# Altium footprint library LARS_409_CONNECTORS.PCBLIB: 109 footprints (part 7 of 7)
Each footprint in its own frame and in the unit in brackets; x right, y up, seen from the top. Pads: shape width x height; smd on the part's side, far side on the other; paste and mask are expansions set on the pad; w line width, h text height; cw(c..) or ccw(c..) is an arc to the next point about the centre after c.
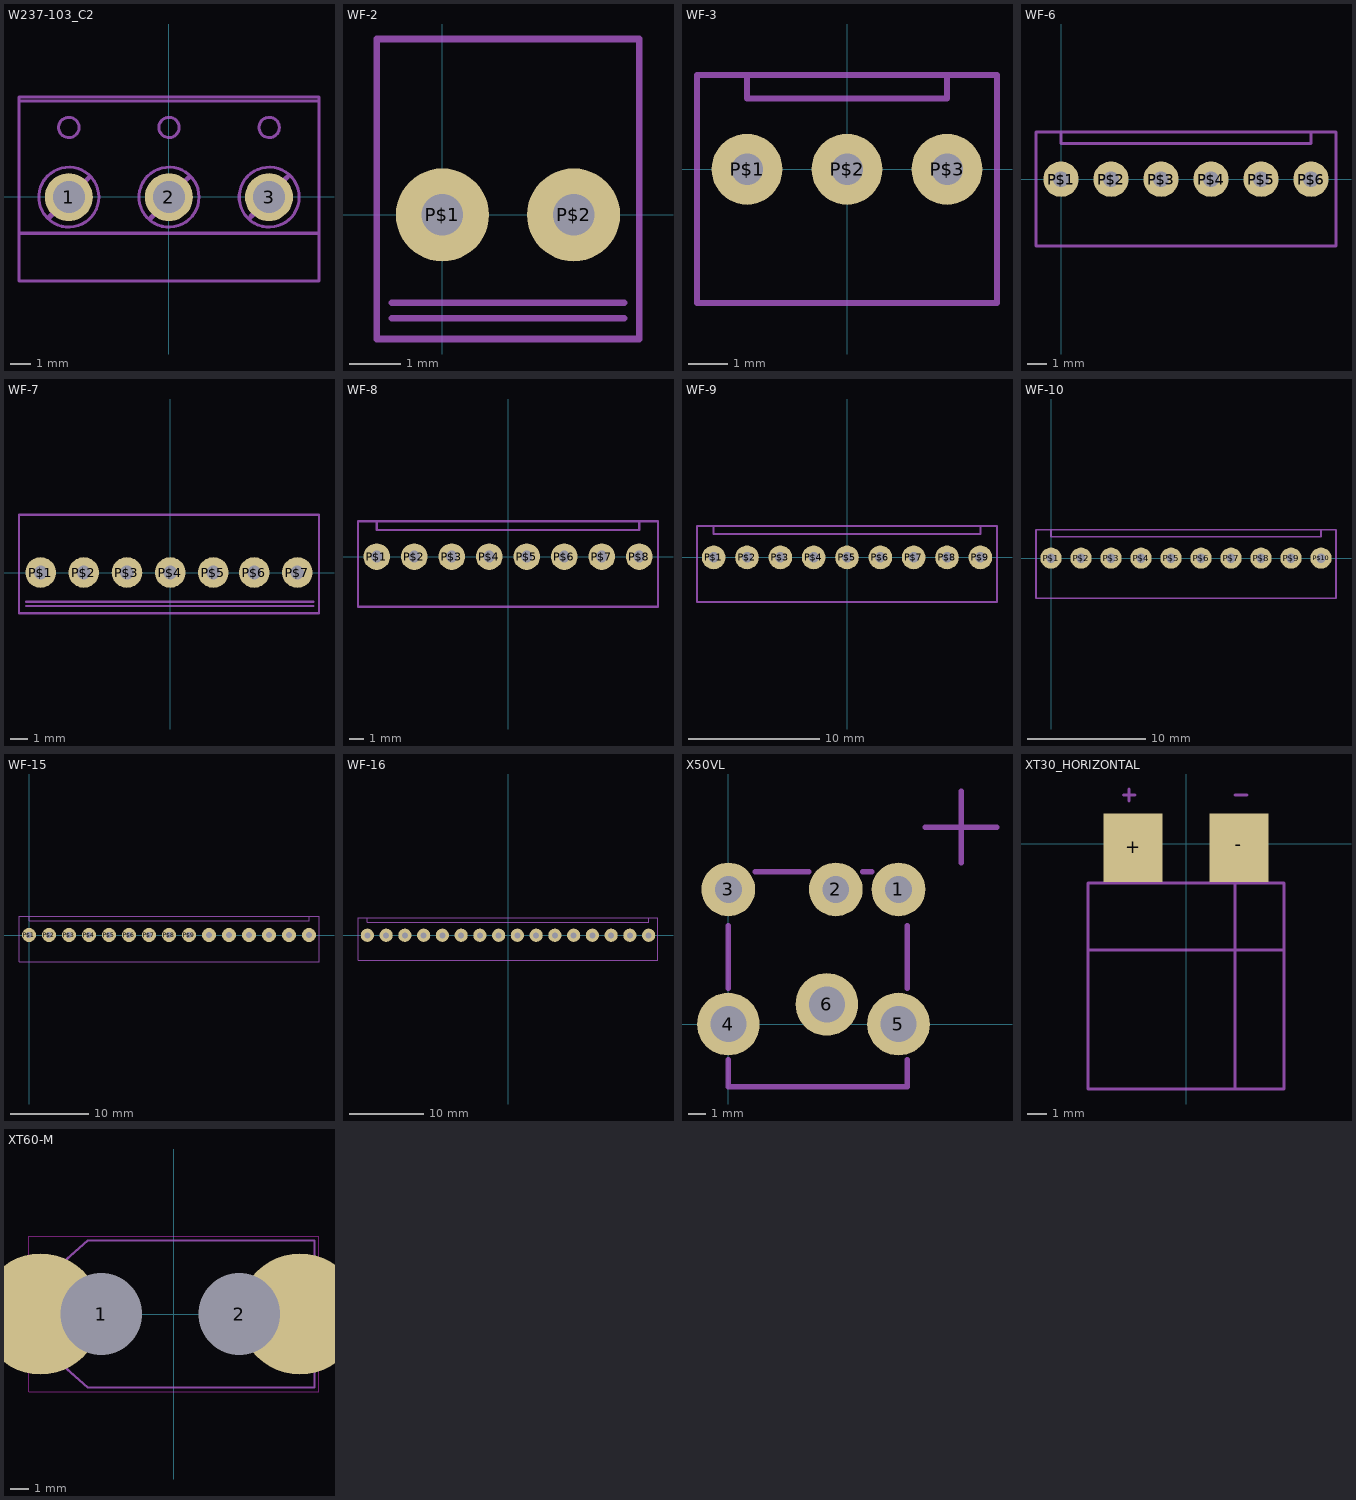
[diagram p6: the footprints below, top view; thin cyan lines are the x and y axes]

## W237-103_C2 [mm]
pads (3):
  round 2.4 hole 1.6: 1(-5,-0.02) 2(0,-0.02) 3(5,-0.02)
tDocu:
  circle w0.152: c0.004,-0.02 r1.499
  circle w0.152: c5.008,-0.02 r1.499
  circle w0.152: c-5,-0.02 r1.499
  lines w0.152: -5.889,-1.823 -4.111,-1.823 ; -0.885,-1.823 0.893,-1.823 ; 4.119,-1.823 5.897,-1.823
  lines w0.254: -5.991,-1.036 -3.984,0.971 ; -0.911,-1.061 0.994,0.971 ; 4.093,-0.985 5.897,0.971
  text "3" at 3.153,1.885 h1.97
  text "2" at -1.85,1.834 h1.97
  text "1" at -6.905,1.885 h1.97
tPlace:
  circle w0.152: c0.004,3.46 r0.508
  circle w0.152: c5.008,3.46 r0.508
  circle w0.152: c-5,3.46 r0.508
  lines w0.152: -5.889,-1.823 -7.489,-1.823 ; -4.111,-1.823 -0.885,-1.823 ; 0.893,-1.823 4.119,-1.823 ; 5.897,-1.823 7.497,-1.823 ; -7.489,-1.823 -7.489,4.781 ; -7.489,-1.823 -7.489,-4.211 7.497,-4.211 7.497,-1.823 ; -7.489,4.781 -7.489,4.984 7.497,4.984 7.497,4.781 ; -7.489,4.781 7.497,4.781 ; 7.497,-1.823 7.497,4.781

## WF-2 [mil]
pads (2):
  round 70.87 hole 31.5: P$1(0,0) P$2(100,0)
tPlace:
  lines w5: -38.58,-78.74 138.58,-78.74 ; -38.58,-66.93 138.58,-66.93 ; -50,-94.49 -50,133.86 150,133.86 150,-94.49 -50,-94.49

## WF-3 [mil]
pads (3):
  round 70.87 hole 31.5: P$1(-100,0) P$2(0,0) P$3(100,0)
tPlace:
  lines w6: -100,94.49 -100,70.87 100,70.87 100,94.49 ; -100,94.49 -150,94.49 -150,-133.86 150,-133.86 150,94.49 100,94.49 ; -100,94.49 100,94.49

## WF-6 [mil]
pads (6):
  round 70.87 hole 31.5: P$1(0,0) P$2(100,0) P$3(200,0) P$4(300,0) P$5(400,0) P$6(500,0)
tPlace:
  lines w6: 0,94.49 0,70.87 500,70.87 500,94.49 ; 0,94.49 -50,94.49 -50,-133.86 550,-133.86 550,94.49 500,94.49 ; 0,94.49 500,94.49

## WF-7 [mil]
pads (7):
  round 70.87 hole 31.5: P$1(-300,0) P$2(-200,0) P$3(-100,0) P$4(0,0) P$5(100,0) P$6(194.49,0) P$7(294.49,0)
tPlace:
  lines w5: -333.07,-77.17 331.5,-77.17 ; -333.07,-67.72 331.5,-67.72 ; -350,-94.49 -350,133.86 344.49,133.86 344.49,-94.49 -350,-94.49

## WF-8 [mil]
pads (8):
  round 70.87 hole 31.5: P$1(-350,0) P$2(-250,0) P$3(-150,0) P$4(-50,0) P$5(50,0) P$6(150,0) P$7(250,0) P$8(350,0)
tPlace:
  lines w6: -350,94.49 -350,70.87 350,70.87 350,94.49 ; -350,94.49 -400,94.49 -400,-133.86 400,-133.86 400,94.49 350,94.49 ; -350,94.49 350,94.49

## WF-9 [mil]
pads (9):
  round 70.87 hole 31.5: P$1(-400,0) P$2(-300,0) P$3(-200,0) P$4(-100,0) P$5(0,0) P$6(100,0) P$7(200,0) P$8(300,0) P$9(400,0)
tPlace:
  lines w6: -400,94.49 -400,70.87 400,70.87 400,94.49 ; -400,94.49 -450,94.49 -450,-133.86 450,-133.86 450,94.49 400,94.49 ; -400,94.49 400,94.49

## WF-10 [mil]
pads (10):
  round 70.87 hole 31.5: P$1(0,0) P$2(100,0) P$3(200,0) P$4(300,0) P$5(400,0) P$6(500,0) P$7(600,0) P$8(700,0) P$9(800,0) P$10(900,0)
tPlace:
  lines w6: 0,94.49 0,70.87 900,70.87 900,94.49 ; 0,94.49 -50,94.49 -50,-133.86 950,-133.86 950,94.49 900,94.49 ; 0,94.49 900,94.49

## WF-15 [mil]
pads (15):
  round 70.87 hole 31.5: P$1(0,0) P$2(100,0) P$3(200,0) P$4(300,0) P$5(400,0) P$6(500,0) P$7(600,0) P$8(700,0) P$9(800,0) P$10(900,0) P$11(1000,0) P$12(1100,0) P$13(1200,0) P$14(1300,0) P$15(1400,0)
tPlace:
  lines w6: 0,94.49 0,70.87 1400,70.87 1400,94.49 ; 0,94.49 -50,94.49 -50,-133.86 1450,-133.86 1450,94.49 1400,94.49 ; 0,94.49 1400,94.49

## WF-16 [mil]
pads (16):
  round 70.87 hole 31.5: P$1(-750,0) P$2(-650,0) P$3(-550,0) P$4(-450,0) P$5(-350,0) P$6(-250,0) P$7(-150,0) P$8(-50,0) P$9(50,0) P$10(150,0) P$11(250,0) P$12(350,0) P$13(450,0) P$14(550,0) P$15(650,0) P$16(750,0)
tPlace:
  lines w6: -750,94.49 -750,70.87 750,70.87 750,94.49 ; -750,94.49 -800,94.49 -800,-133.86 800,-133.86 800,94.49 750,94.49 ; -750,94.49 750,94.49

## X50VL [mm]
pads (6):
  round 3 hole 1.5: 1(9.5,7.52) 2(6,7.52) 3(0,7.52)
  round 3.5 hole 2: 4(0,0) 5(9.5,0) 6(5.5,1.1)
tPlace:
  lines w0.305: 0,-2 0,-3.5 10,-3.5 10,-2 ; 0,2 0,5.5 ; 1.5,8.5 4.5,8.5 ; 7.5,8.5 8,8.5 ; 10,2 10,5.5 ; 11,11 15,11 ; 13,9 13,13

## XT30_HORIZONTAL [mm]
pads (2):
  rect 3x3.5 smd: +(-2.7,-0.2) -(2.7,-0.2)
tPlace:
  lines w0.152: -3.2,2.5 -2.6,2.5 ; -2.9,2.2 -2.9,2.8 ; 2.5,2.5 3.1,2.5 ; -5,-5.4 -5,-12.5 2.5,-12.5 ; -5,-5.4 -5,-2 2.5,-2 ; -5,-5.4 5,-5.4 ; 2.5,-12.5 5,-12.5 5,-5.4 ; 2.5,-12.5 2.5,-2 ; 2.5,-2 5,-2 5,-5.4

## XT60-M [mm]
pads (2):
  round 6.7 hole 4.5 copper offset -3.35,0: 1(-4.02,0)
  round 6.7 hole 4.5 copper offset 3.35,0: 2(3.6,0)
Top keep-out:
  lines w0.05: -8,-4.3 8,-4.3 8,4.3 -8,4.3 -8,-4.3
tDocu:
  lines w0.127: -7.75,-1.4 -4.75,-4.05 7.75,-4.05 7.75,4.05 -4.75,4.05 -7.75,1.4 -7.75,-1.4
tPlace:
  circle w0.3: c-8.4,-0.1 r0.15
  lines w0.127: -6.73,-2.3 -7.75,-1.4 -7.75,1.4 -6.73,2.3 ; -5.88,-3.05 -4.75,-4.05 7.75,-4.05 7.75,4.05 -4.75,4.05 -5.88,3.05